# EAGLE library part M25P32 (library Memory)
Micron M25P32 Serial Flash Embedded Memory
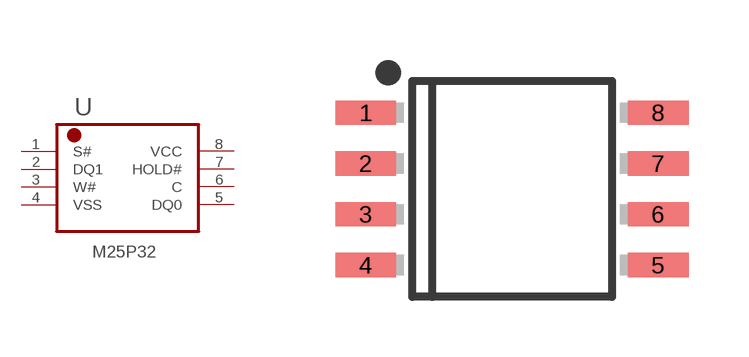
[diagram p4: symbol with the pads of SO08W; footprint SO08W]

Designator prefix U

## M25P32-VMW  [SO08W]
1  S#
2  DQ1
3  W#
4  VSS
5  DQ0
6  C
7  HOLD#
8  VCC

## Footprint SO08W (pad centres in mm)
DO NOT USE FOR NEW DESIGNS 208 mils Body Width
smd 1.524 x 0.61: 1 -3.658,1.905; 2 -3.658,0.635; 3 -3.658,-0.635; 4 -3.658,-1.905; 5 3.658,-1.905; 6 3.658,-0.635; 7 3.658,0.635; 8 3.658,1.905